# Altium footprint library test.PcbLib: 24 footprints (part 1 of 2)
Each footprint in its own frame and in the unit in brackets; x right, y up, seen from the top. Pads: shape width x height; smd on the part's side, far side on the other; paste and mask are expansions set on the pad; w line width, h text height; cw(c..) or ccw(c..) is an arc to the next point about the centre after c.
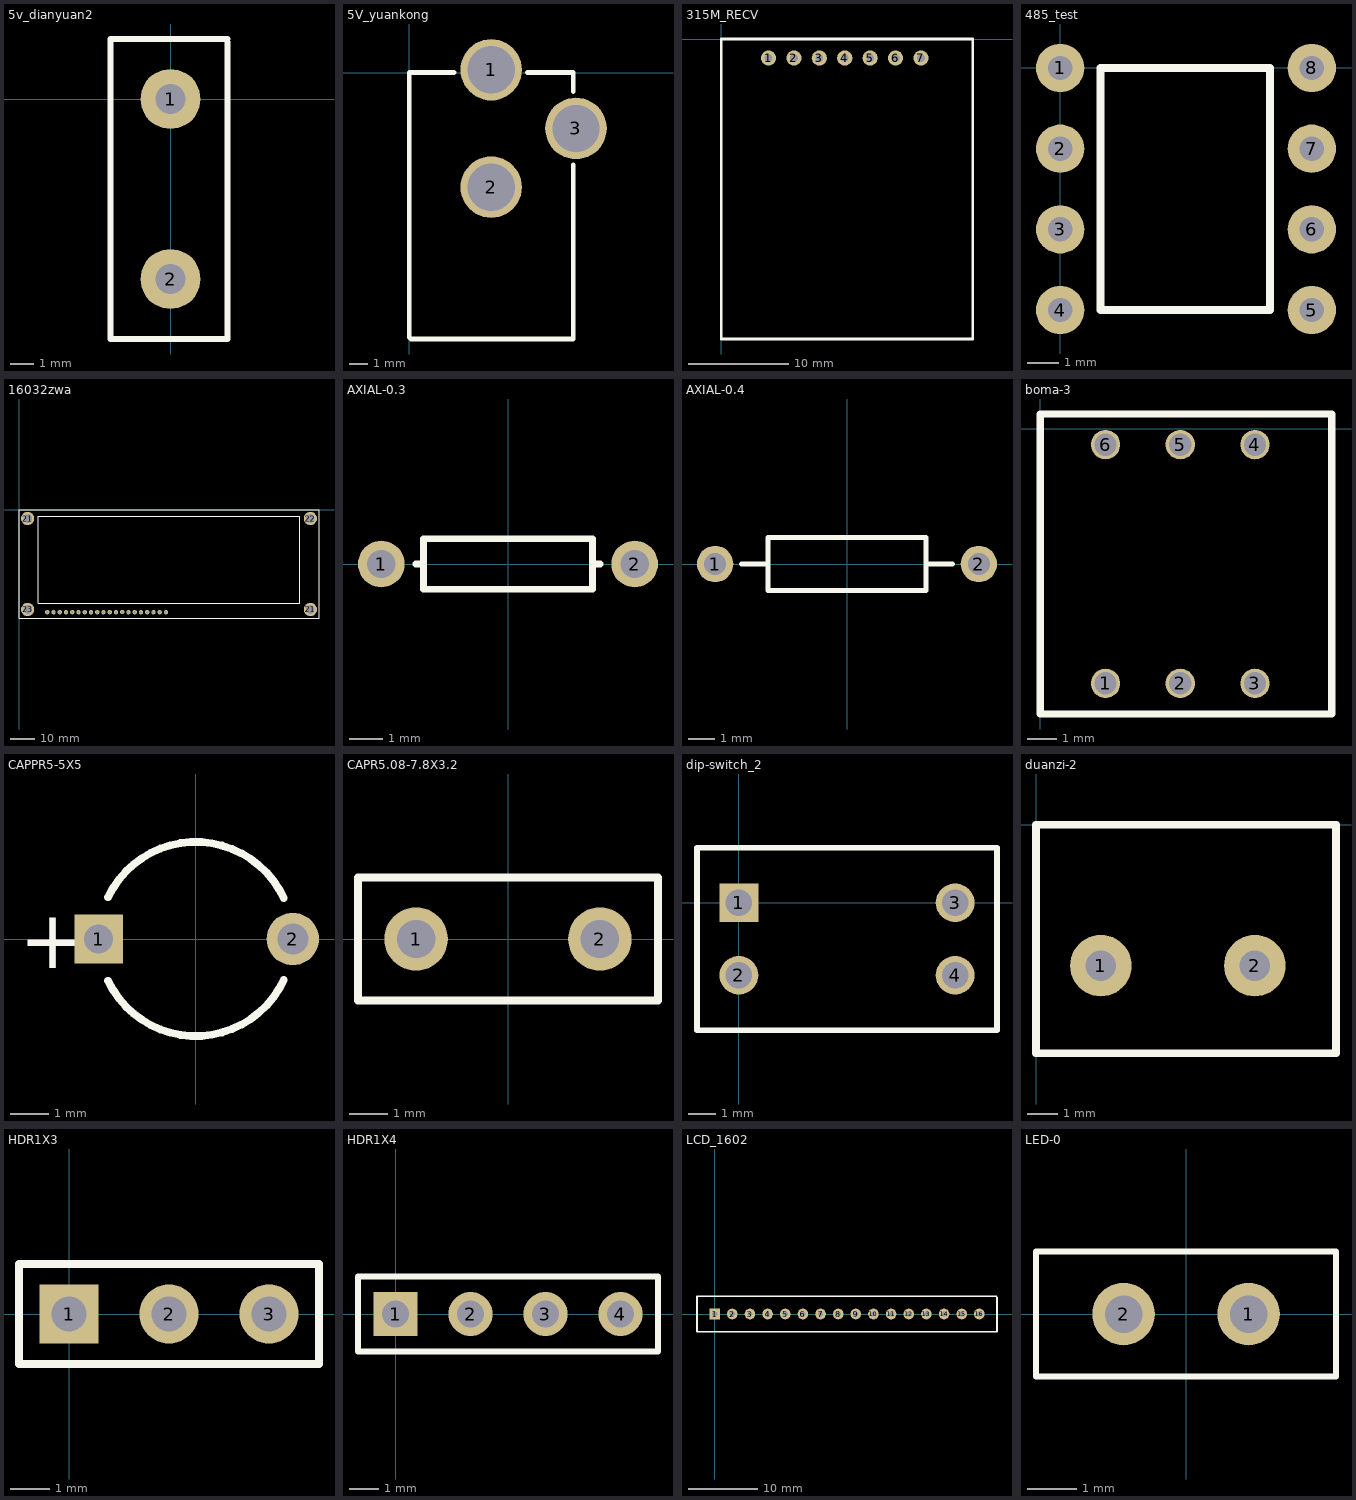
[diagram p0: the footprints below, top view; thin cyan lines are the x and y axes]

## 5v_dianyuan2 [mil]
pads (2):
  round 100 hole 50: 1(0,0) 2(0,-300)
Top Overlay:
  lines w10: 95,95 95,-400 -100,-400 -100,100 95,100

## 5V_yuankong [mil]
height 763.78
pads (3):
  round 130 hole 100: 1(173.23,5.91) 2(173.23,-242.13) 3(352.36,-118.11)
Top Overlay:
  lines w10: 0,-560 0,-40 0,0 95,0 ; 2.99,-562.99 346.46,-562.99 346.46,-195 ; 250,0 346.46,0 346.46,-40

## 315M_RECV [mil]
pads (7):
  round 60 hole 30: 1(186,-75) 2(286,-75) 3(386,-75) 4(486,-75) 5(586,-75) 6(686,-75) 7(786,-75)
Top Overlay:
  lines w10: 0,-1181.1 989.76,-1181.1 989.76,0 0,0 0,-1181.1

## 485_test [mil]
pads (8):
  round 60 hole 30: 1(0,0) 2(0,-100) 3(0,-200) 4(0,-300) 5(311.81,-300) 6(311.81,-200) 7(311.81,-100) 8(311.81,0)
Top Overlay:
  lines w10: 50,-300 260,-300 260,0 50,0 50,-300

## 16032zwa [mm]
pads (24):
  round 1.778 hole 1: 1(59.76,-41.6) 2(57.22,-41.6) 3(54.68,-41.6) 4(52.14,-41.6) 5(49.6,-41.6) 6(47.06,-41.6) 7(44.52,-41.6) 8(41.98,-41.529) 9(39.44,-41.6) 10(36.9,-41.6) 11(34.36,-41.6) 12(31.82,-41.6) 13(29.28,-41.6) 14(26.74,-41.6) 15(24.2,-41.6) 16(21.66,-41.6) 17(19.12,-41.6) 18(16.58,-41.6) 19(14.04,-41.6) 20(11.5,-41.6)
  round 5.4 hole 3.5: 21(3.5,-3.5) 21(118.5,-40.5) 22(118.5,-3.5) 23(3.5,-40.5)
Top Overlay:
  lines w0.254: 0,-44 0,0 122,0 122,-44 0,-44 ; 7.75,-38 114.25,-38 114.25,-2.5 7.75,-2.5 7.75,-38

## AXIAL-0.3 [mm] "Resistor; 2 Leads"
height 1.524
pads (2):
  round 1.4 hole 0.85: 1(-3.81,0) 2(3.81,0)
Top Overlay:
  lines w0.2: -2.769,0 -2.54,0 ; 2.769,0 2.54,0 ; 2.54,0 2.54,-0.762 -2.54,-0.762 -2.54,0.762 2.54,0.762 2.54,0

## AXIAL-0.4 [mm]
pads (2):
  round 1.4 hole 0.85: 1(-5.08,0) 2(5.08,0)
Top Overlay:
  lines w0.2: -4.064,0 -3.048,0 ; 3.048,0 4.064,0 ; -3.048,-1.016 3.048,-1.016 3.048,1.016 -3.048,1.016 -3.048,-1.016

## boma-3 [mm]
pads (6):
  round 1 hole 0.762: 1(2.215,-8.65) 2(4.755,-8.65) 3(7.295,-8.65) 4(7.295,-0.53) 5(4.755,-0.53) 6(2.215,-0.53)
Top Overlay:
  lines w0.254: 0,-9.688 0,0.508 9.9,0.508 9.9,-9.688 0,-9.688

## CAPPR5-5X5 [mm]
pads (2):
  rect 1.25x1.25 hole 0.75: 1(-2.5,0)
  round 1.35 hole 0.8: 2(2.5,0)
Top Overlay:
  lines w0.2: -2.257,-1.075 ccw(c0,0) 2.269,-1.05 ; -2.257,1.075 cw(c0,0) 2.269,1.05
  text "+" at -4.55,-0.75 h1.5

## CAPR5.08-7.8X3.2 [mm]
pads (2):
  round 1.65 hole 1: 1(-2.39,0) 2(2.39,0)
Top Overlay:
  lines w0.2: -3.9,-1.6 -3.9,1.6 3.9,1.6 3.9,-1.6 -3.9,-1.6

## dip-switch_2 [mm]
pads (4):
  rect 1.4x1.4 hole 0.95: 1(0,0)
  round 1.4 hole 0.95: 2(0,-2.61) 3(7.785,0) 4(7.785,-2.61)
Top Overlay:
  lines w0.2: -1.508,-4.595 -1.508,1.985 9.293,1.985 9.293,-4.595 -1.508,-4.595

## duanzi-2 [mil]
pads (2):
  round 80 hole 40: 1(84.25,-183.07) 2(284.25,-183.07)
Top Overlay:
  lines w10: 0,-296.85 0,0 389.76,0 389.76,-296.85 0,-296.85

## HDR1X3 [mm] "Connector; Header; 3 Position"
pads (3):
  rect 1.5x1.5 hole 0.9: 1(0,0)
  round 1.5 hole 0.9: 2(2.54,0) 3(5.08,0)
Top Overlay:
  lines w0.2: -1.27,-1.27 -1.27,1.27 6.35,1.27 6.35,-1.27 -1.27,-1.27

## HDR1X4 [mm] "Connector; Header; 4 Position"
pads (4):
  rect 1.5x1.5 hole 0.9: 1(0,0)
  round 1.5 hole 0.9: 2(2.54,0) 3(5.08,0) 4(7.62,0)
Top Overlay:
  lines w0.2: -1.27,-1.27 -1.27,1.27 8.89,1.27 8.89,-1.27 -1.27,-1.27

## LCD_1602 [mil]
height 763.78
pads (16):
  rect 60x60 hole 30: 1(0,0)
  round 60 hole 30: 2(100,0) 3(200,0) 4(300,0) 5(400,0) 6(500,0) 7(600,0) 8(700,0) 9(800,0) 10(900,0) 11(1000,0) 12(1100,0) 13(1200,0) 14(1300,0) 15(1400,0) 16(1500,0)
via -240,-1220 diameter 137.8 hole 118.11
via 2720,-1220 diameter 137.8 hole 118.11
Top Overlay:
  lines w10: -100,-100 1600,-100 1600,95 1595,100 -100,100 -100,-100

## LED-0 [mil] "Typical INFRARED GaAs LED; 2 Leads"
pads (2):
  round 50 hole 30: 1(50,0) 2(-50,0)
Top Overlay:
  lines w5: -120,-50 120,-50 120,50 -120,50 -120,-50